# Altium integrated library Linear Technology Power Management Hot Swap Controllers.IntLib: 992 symbols (part 44 of 93)
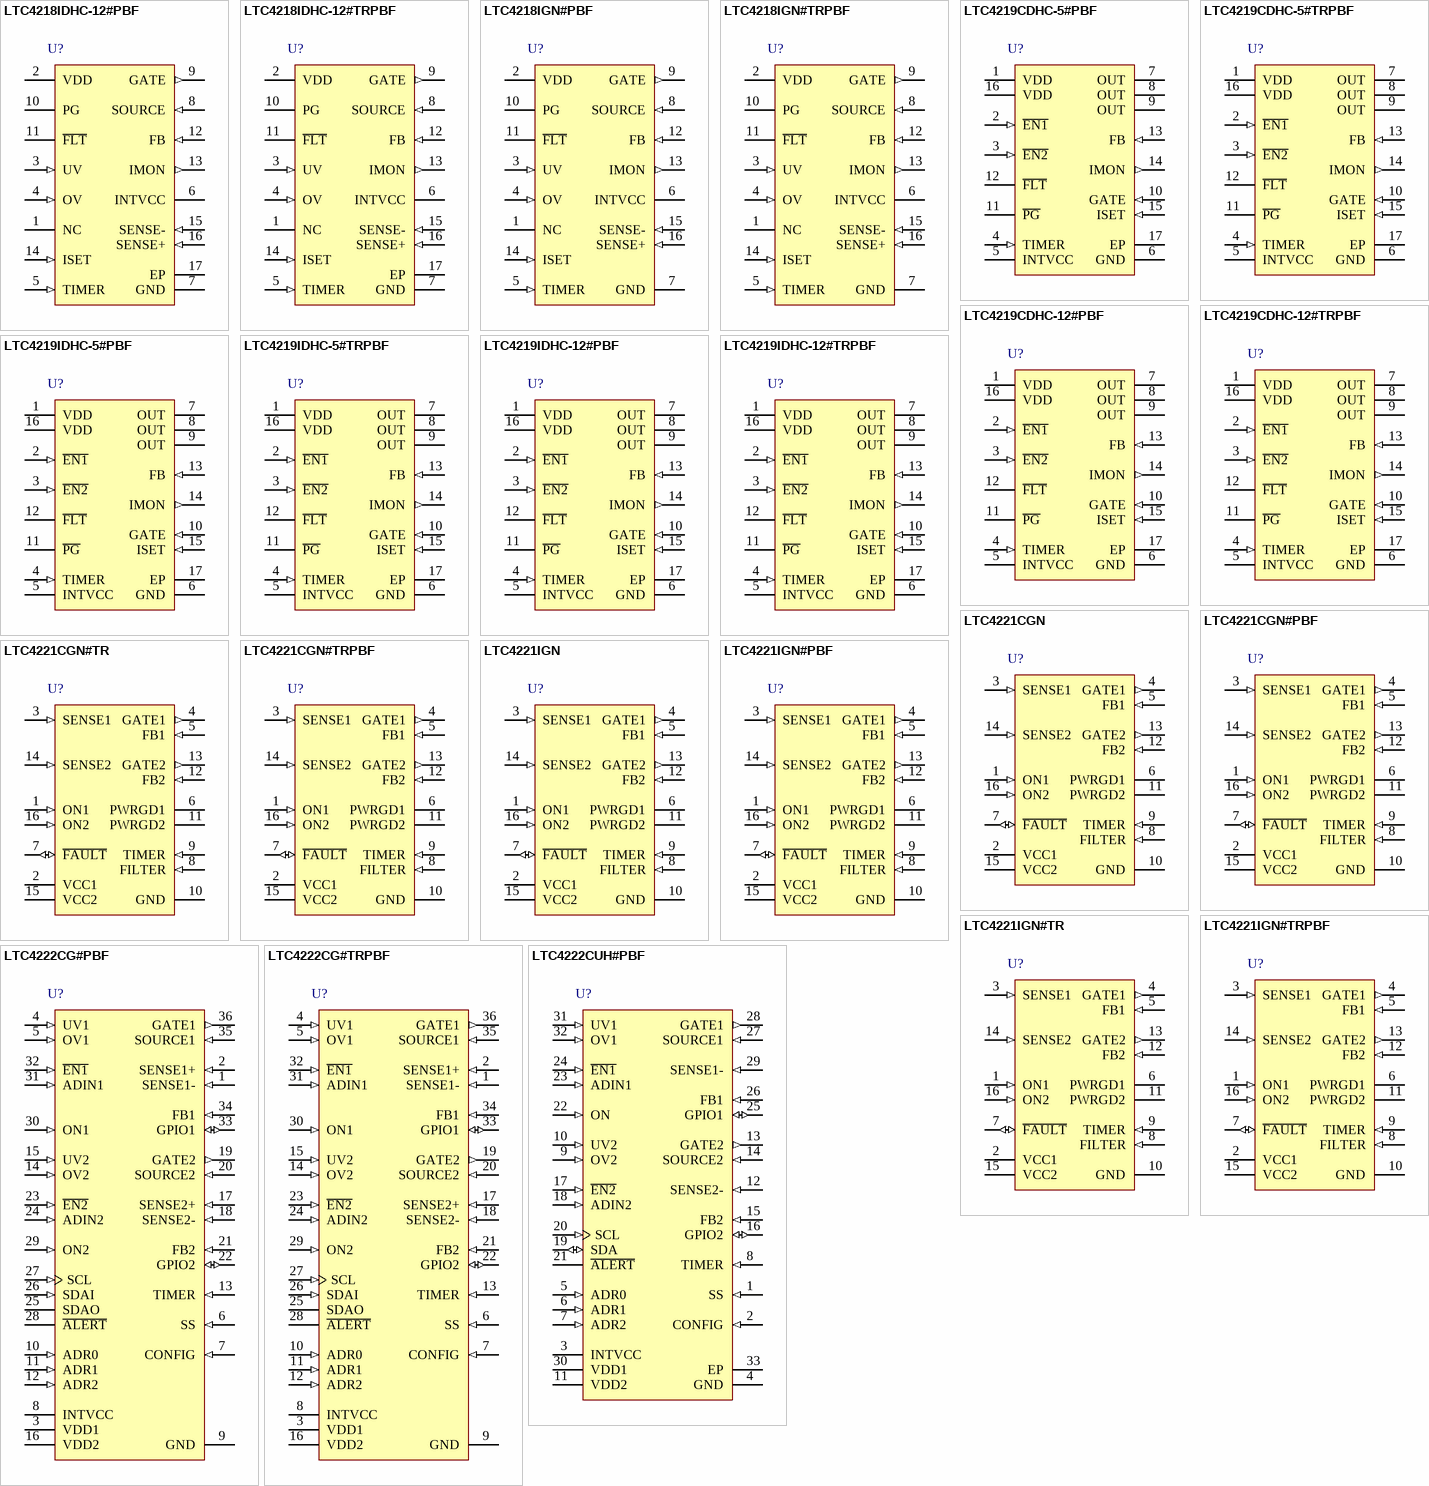
[diagram p80: symbols LTC4218IDHC-12#PBF to LTC4222CUH#PBF]

## LTC4222CG#TRPBF
designator U?
Dual Hot Swap Controller with I2C Compatible Monitoring, 2.9 to 29 V Vin, 36-pin SOP (G-36), 0 to 70 degC, Pb-Free, Tape and Reel; Manufacturer: Linear Technology; PartNumber: LTC4222CG#TRPBF; Active Limiting: yes; ADC: 10-bit; Circuit Breaker Accuracy(%): 5; Circuit Breaker Threshold: 50 mV; Circuit Breakers(#): 2; Extended Temp: C, I; DatasheetVersion: Rev. B; PackageReference: G-36; PackageDescription: 36-Pin Plastic SSOP, Body 12.8 x 5.3 mm, Pitch 0.65 mm; Supplier 1: Digi-Key; Supplier Part Number 1: LTC4222CG#TRPBF-ND; Fast Comparator: yes; Fault: yes; Foldback: yes; Packing: Tape and Reel; Power Good: yes; Reset: yes; RoHS: TRUE; Vin Range: 2.9 to 29 V; Mounting Technology: Surface Mount; ComponentLink1Description: Manufacturer URL; ComponentLink1URL: http://www.linear.com/; ComponentLink2Description: Datasheet; ComponentLink2URL: http://cds.linear.com/docs/en/datasheet/4222fb.pdf; ComponentLink3Description: Package Specification; ComponentLink3URL: http://cds.linear.com/docs/en/packaging/SSOP_36_05-08-1640.pdf
footprint LT-G-36_N (SOP, 36-Leads, Body 13.1x5.6mm, Pitch 0.65mm, IPC Medium Density)
footprint LT-G-36_L (SOP, 36-Leads, Body 13.1x5.6mm, Pitch 0.65mm, IPC High Density)
footprint LT-G-36_M (SOP, 36-Leads, Body 13.1x5.6mm, Pitch 0.65mm, IPC Low Density)
pins: 1 SENSE1- (in) "SENSE1-, SENSE2-: Negative Current Sense Input. Connect this pin to the output of the current sense resistor. The current limit circuit controls the corresponding GATE pin voltage to limit the sense voltage between the (See Datasheet)", 2 SENSE1+ (in) "SENSE1+, SENSE2+: (SSOP Package) Positive Current Sense Input. Connect this pin to the input of the current sense resistor. It must be connected to the same trace as VDDn. Internally tied to VDDn in the QFN package.", 3 VDD1 (power) "VDD1, VDD2: Supply Voltage Input and Positive Current Sense Input. This pin has an undervoltage lockout threshold of 2.43V. In the QFN package this pin is also the positive current sense input.", 4 UV1 (in) "UV1, UV2: Undervoltage Comparator Input. Connect this pin to an external resistive divider from VDD. If the voltage at this pin falls below 1.145V, an undervoltage fault is detected and the GATE turns off. Pulling this pin (See Datasheet)", 5 OV1 (in) "OV1, OV2: Overvoltage Comparator Input. Connect this pin to an external resistive divider from VDD. If the voltage at this pin rises above 1.235V, an overvoltage fault is detected and the GATE turns off. Tie to GND if unused.", 6 SS (in) "SS: Soft-Start Input. Sets the inrush current slew rate at start-up. Connect a 68nF capacitor to provide 5mV/ms as the slew rate for the sense voltage in start-up. This corresponds to 1A/ms with a 5mohm sense resistor. Note (See Datasheet)", 7 CONFIG (in) "CONFIG: Configuration Input. Configures the part to control the two channels together or independently. When CONFIG is tied to GND both channels start up at the same time. A fault, E\N\ or ON turn-off command on either (See Datasheet)", 8 INTVCC (power) "INTVCC: Low Voltage Supply Decoupling Output. Connect a 0.1uF capacitor from this pin to ground.", 9 GND (power) "GND: Device Ground.", 10 ADR0 (in) "ADR0, ADR1, ADR2: Serial Bus Address Inputs. Tying these pins to ground, open, or INTVCC configures one of 27 possible addresses. See Table 1 in Applications Information.", 11 ADR1 (in) "ADR0, ADR1, ADR2: Serial Bus Address Inputs. Tying these pins to ground, open, or INTVCC configures one of 27 possible addresses. See Table 1 in Applications Information.", 12 ADR2 (in) "ADR0, ADR1, ADR2: Serial Bus Address Inputs. Tying these pins to ground, open, or INTVCC configures one of 27 possible addresses. See Table 1 in Applications Information.", 13 TIMER (in) "TIMER: Start-Up Timer Input. Connect a capacitor between this pin and ground to set a 12.3ms/uF duration for start-up, after which an overcurrent fault is logged if the inrush is still current limited. The duration of the (See Datasheet)", 14 OV2 (in) "OV1, OV2: Overvoltage Comparator Input. Connect this pin to an external resistive divider from VDD. If the voltage at this pin rises above 1.235V, an overvoltage fault is detected and the GATE turns off. Tie to GND if unused.", 15 UV2 (in) "UV1, UV2: Undervoltage Comparator Input. Connect this pin to an external resistive divider from VDD. If the voltage at this pin falls below 1.145V, an undervoltage fault is detected and the GATE turns off. Pulling this pin (See Datasheet)", 16 VDD2 (power) "VDD1, VDD2: Supply Voltage Input and Positive Current Sense Input. This pin has an undervoltage lockout threshold of 2.43V. In the QFN package this pin is also the positive current sense input.", 17 SENSE2+ (in) "SENSE1+, SENSE2+: (SSOP Package) Positive Current Sense Input. Connect this pin to the input of the current sense resistor. It must be connected to the same trace as VDDn. Internally tied to VDDn in the QFN package.", 18 SENSE2- (in) "SENSE1-, SENSE2-: Negative Current Sense Input. Connect this pin to the output of the current sense resistor. The current limit circuit controls the corresponding GATE pin voltage to limit the sense voltage between the (See Datasheet)", 19 GATE2 (out) "GATE1, GATE2: Gate Drive for External N-Channel MOSFET. An internal 12uA current source charges the gate of the MOSFET. No compensation capacitor is required on the GATE pin, but a resistor and capacitor network from this (See Datasheet)", 20 SOURCE2 (in) "SOURCE1, SOURCE2: N-Channel MOSFET Source and ADC Input. Connect this pin to the source of the external N-channel MOSFET switch for gate drive return. This pin also serves as the ADC input to monitor output voltage. The pin (See Datasheet)", 21 FB2 (in) "FB1, FB2: Foldback Current Limit and Power-Good Input. A resistive divider from the output is tied to this pin. When the voltage at this pin drops below 1.235V, power is not considered good. The power bad condition may (See Datasheet)", 22 GPIO2 (io) "GPIO1, GPIO2: General Purpose Input/Output. Open-drain logic output or logic input. Defaults to an output set to pull low to indicate power is not good. Configure according to Table 3.", 23 ~{EN2} (in) "E\N\1\, E\N\2\: Enable Input. Ground this pin to indicate a board is present and enable the N-channel MOSFET to turn-on. When this pin is high, the MOSFET is not allowed to turn on. An internal 10uA current source pulls up (See Datasheet)", 24 ADIN2 (in) "ADIN: ADC Input. A voltage between 0 and 1.28V applied to this pin is measured by the on-board ADC. Tie to ground if unused.", 25 SDAO (oc) "SDAO: (SSOP Package) Serial Bus Data Output. Opendrain output for sending data back to the master controller or acknowledging a write operation. Normally tied to SDAI to form the SDA line. An external pull-up resistor or (See Datasheet)", 26 SDAI (in) "SDAI: (SSOP Package) Serial Bus Data Input. A high impedance input for shifting in address, command or data bits. Normally tied to SDAO to form the SDA line. Internally tied to SDAO in QFN package.", 27 SCL (in) "SCL: Serial Bus Clock Input. Data at the SDA pin is shifted in or out on rising edges of SCL. This is a high impedance pin that is generally driven by an open-collector output from a master controller. An external pull-up (See Datasheet)", 28 ~{ALERT} (oc) "A\L\E\R\T\: Fault Alert Output. Open-drain logic output that is pulled to ground when a fault occurs to alert the host controller. A fault alert is enabled by setting the corresponding bit in the A\L\E\R\T\ register as shown (See Datasheet)", 29 ON2 (in) "ON1, ON2: (SSOP Package) On Control Inputs. A rising edge turns on the external N-channel FET and a falling edge turns it off. This pin also configures the state of the FET ON register bit (and hence the external FET) at (See Datasheet)", 30 ON1 (in) "ON1, ON2: (SSOP Package) On Control Inputs. A rising edge turns on the external N-channel FET and a falling edge turns it off. This pin also configures the state of the FET ON register bit (and hence the external FET) at (See Datasheet)", 31 ADIN1 (in) "ADIN: ADC Input. A voltage between 0 and 1.28V applied to this pin is measured by the on-board ADC. Tie to ground if unused.", 32 ~{EN1} (in) "E\N\1\, E\N\2\: Enable Input. Ground this pin to indicate a board is present and enable the N-channel MOSFET to turn-on. When this pin is high, the MOSFET is not allowed to turn on. An internal 10uA current source pulls up (See Datasheet)", 33 GPIO1 (io) "GPIO1, GPIO2: General Purpose Input/Output. Open-drain logic output or logic input. Defaults to an output set to pull low to indicate power is not good. Configure according to Table 3.", 34 FB1 (in) "FB1, FB2: Foldback Current Limit and Power-Good Input. A resistive divider from the output is tied to this pin. When the voltage at this pin drops below 1.235V, power is not considered good. The power bad condition may (See Datasheet)", 35 SOURCE1 (in) "SOURCE1, SOURCE2: N-Channel MOSFET Source and ADC Input. Connect this pin to the source of the external N-channel MOSFET switch for gate drive return. This pin also serves as the ADC input to monitor output voltage. The pin (See Datasheet)", 36 GATE1 (out) "GATE1, GATE2: Gate Drive for External N-Channel MOSFET. An internal 12uA current source charges the gate of the MOSFET. No compensation capacitor is required on the GATE pin, but a resistor and capacitor network from this (See Datasheet)"

## LTC4222CUH#PBF
designator U?
Dual Hot Swap Controller with I2C Compatible Monitoring, 2.9 to 29 V Vin, 32-pin QFN (UH-32), 0 to 70 degC, Pb-Free; Manufacturer: Linear Technology; PartNumber: LTC4222CUH#PBF; Active Limiting: yes; ADC: 10-bit; Circuit Breaker Accuracy(%): 5; Circuit Breaker Threshold: 50 mV; Circuit Breakers(#): 2; Extended Temp: C, I; DatasheetVersion: Rev. B; PackageVersion: Rev. D, 06/2010; PackageReference: UH-32; PackageDescription: 32-Pin Plastic QFN, Body 5 x 5 mm, Pitch 0.5 mm; Supplier 1: Digi-Key; Supplier Part Number 1: LTC4222CUH#PBF-ND; Supplier 2: Newark; Supplier Part Number 2: 13P4661; Fast Comparator: yes; Fault: yes; Foldback: yes; Power Good: yes; Reset: yes; RoHS: TRUE; Vin Range: 2.9 to 29 V; Mounting Technology: Surface Mount; Code_JEDEC: MO-220; ComponentLink1Description: Manufacturer URL; ComponentLink1URL: http://www.linear.com/; ComponentLink2Description: Datasheet; ComponentLink2URL: http://cds.linear.com/docs/en/datasheet/4222fb.pdf; ComponentLink3Description: Package Specification; ComponentLink3URL: http://cds.linear.com/docs/en/packaging/QFN_32_05-08-1693.pdf
footprint LT-UH-32_N (QFN, 32-Leads, Body 5.1x5.1mm, Pitch 0.5mm, Thermal Pad 3.45X3.45mm, IPC Medium Density)
footprint LT-UH-32_L (QFN, 32-Leads, Body 5.1x5.1mm, Pitch 0.5mm, Thermal Pad 3.45X3.45mm, IPC High Density)
footprint LT-UH-32_M (QFN, 32-Leads, Body 5.1x5.1mm, Pitch 0.5mm, Thermal Pad 3.45X3.45mm, IPC Low Density)
pins: 1 SS (in) "SS: Soft-Start Input. Sets the inrush current slew rate at start-up. Connect a 68nF capacitor to provide 5mV/ms as the slew rate for the sense voltage in start-up. This corresponds to 1A/ms with a 5mohm sense resistor. Note (See Datasheet)", 2 CONFIG (in) "CONFIG: Configuration Input. Configures the part to control the two channels together or independently. When CONFIG is tied to GND both channels start up at the same time. A fault, E\N\ or ON turn-off command on either (See Datasheet)", 3 INTVCC (power) "INTVCC: Low Voltage Supply Decoupling Output. Connect a 0.1uF capacitor from this pin to ground.", 4 GND (power) "GND: Device Ground.", 5 ADR0 (in) "ADR0, ADR1, ADR2: Serial Bus Address Inputs. Tying these pins to ground, open, or INTVCC configures one of 27 possible addresses. See Table 1 in Applications Information.", 6 ADR1 (in) "ADR0, ADR1, ADR2: Serial Bus Address Inputs. Tying these pins to ground, open, or INTVCC configures one of 27 possible addresses. See Table 1 in Applications Information.", 7 ADR2 (in) "ADR0, ADR1, ADR2: Serial Bus Address Inputs. Tying these pins to ground, open, or INTVCC configures one of 27 possible addresses. See Table 1 in Applications Information.", 8 TIMER (in) "TIMER: Start-Up Timer Input. Connect a capacitor between this pin and ground to set a 12.3ms/uF duration for start-up, after which an overcurrent fault is logged if the inrush is still current limited. The duration of the (See Datasheet)", 9 OV2 (in) "OV1, OV2: Overvoltage Comparator Input. Connect this pin to an external resistive divider from VDD. If the voltage at this pin rises above 1.235V, an overvoltage fault is detected and the GATE turns off. Tie to GND if unused.", 10 UV2 (in) "UV1, UV2: Undervoltage Comparator Input. Connect this pin to an external resistive divider from VDD. If the voltage at this pin falls below 1.145V, an undervoltage fault is detected and the GATE turns off. Pulling this pin (See Datasheet)", 11 VDD2 (power) "VDD1, VDD2: Supply Voltage Input and Positive Current Sense Input. This pin has an undervoltage lockout threshold of 2.43V. In the QFN package this pin is also the positive current sense input.", 12 SENSE2- (in) "SENSE1-, SENSE2-: Negative Current Sense Input. Connect this pin to the output of the current sense resistor. The current limit circuit controls the corresponding GATE pin voltage to limit the sense voltage between the (See Datasheet)", 13 GATE2 (out) "GATE1, GATE2: Gate Drive for External N-Channel MOSFET. An internal 12uA current source charges the gate of the MOSFET. No compensation capacitor is required on the GATE pin, but a resistor and capacitor network from this (See Datasheet)", 14 SOURCE2 (in) "SOURCE1, SOURCE2: N-Channel MOSFET Source and ADC Input. Connect this pin to the source of the external N-channel MOSFET switch for gate drive return. This pin also serves as the ADC input to monitor output voltage. The pin (See Datasheet)", 15 FB2 (in) "FB1, FB2: Foldback Current Limit and Power-Good Input. A resistive divider from the output is tied to this pin. When the voltage at this pin drops below 1.235V, power is not considered good. The power bad condition may (See Datasheet)", 16 GPIO2 (io) "GPIO1, GPIO2: General Purpose Input/Output. Open-drain logic output or logic input. Defaults to an output set to pull low to indicate power is not good. Configure according to Table 3.", 17 ~{EN2} (in) "E\N\1\, E\N\2\: Enable Input. Ground this pin to indicate a board is present and enable the N-channel MOSFET to turn-on. When this pin is high, the MOSFET is not allowed to turn on. An internal 10uA current source pulls up (See Datasheet)", 18 ADIN2 (in) "ADIN: ADC Input. A voltage between 0 and 1.28V applied to this pin is measured by the on-board ADC. Tie to ground if unused.", 19 SDA (io) "SDA: (QFN Package) Serial Bus Data Input/Output Line. Formed by internally tying the SDAO and SDAI lines together. An external pull-up resistor or current source is required.", 20 SCL (in) "SCL: Serial Bus Clock Input. Data at the SDA pin is shifted in or out on rising edges of SCL. This is a high impedance pin that is generally driven by an open-collector output from a master controller. An external pull-up (See Datasheet)", 21 ~{ALERT} (oc) "A\L\E\R\T\: Fault Alert Output. Open-drain logic output that is pulled to ground when a fault occurs to alert the host controller. A fault alert is enabled by setting the corresponding bit in the A\L\E\R\T\ register as shown (See Datasheet)", 22 ON (in) "ON: (QFN Package) On Control Input. Formed by internally tying the ON1 and ON2 lines together.", 23 ADIN1 (in) "ADIN: ADC Input. A voltage between 0 and 1.28V applied to this pin is measured by the on-board ADC. Tie to ground if unused.", 24 ~{EN1} (in) "E\N\1\, E\N\2\: Enable Input. Ground this pin to indicate a board is present and enable the N-channel MOSFET to turn-on. When this pin is high, the MOSFET is not allowed to turn on. An internal 10uA current source pulls up (See Datasheet)", 25 GPIO1 (io) "GPIO1, GPIO2: General Purpose Input/Output. Open-drain logic output or logic input. Defaults to an output set to pull low to indicate power is not good. Configure according to Table 3.", 26 FB1 (in) "FB1, FB2: Foldback Current Limit and Power-Good Input. A resistive divider from the output is tied to this pin. When the voltage at this pin drops below 1.235V, power is not considered good. The power bad condition may (See Datasheet)", 27 SOURCE1 (in) "SOURCE1, SOURCE2: N-Channel MOSFET Source and ADC Input. Connect this pin to the source of the external N-channel MOSFET switch for gate drive return. This pin also serves as the ADC input to monitor output voltage. The pin (See Datasheet)", 28 GATE1 (out) "GATE1, GATE2: Gate Drive for External N-Channel MOSFET. An internal 12uA current source charges the gate of the MOSFET. No compensation capacitor is required on the GATE pin, but a resistor and capacitor network from this (See Datasheet)", 29 SENSE1- (in) "SENSE1-, SENSE2-: Negative Current Sense Input. Connect this pin to the output of the current sense resistor. The current limit circuit controls the corresponding GATE pin voltage to limit the sense voltage between the (See Datasheet)", 30 VDD1 (power) "VDD1, VDD2: Supply Voltage Input and Positive Current Sense Input. This pin has an undervoltage lockout threshold of 2.43V. In the QFN package this pin is also the positive current sense input.", 31 UV1 (in) "UV1, UV2: Undervoltage Comparator Input. Connect this pin to an external resistive divider from VDD. If the voltage at this pin falls below 1.145V, an undervoltage fault is detected and the GATE turns off. Pulling this pin (See Datasheet)", 32 OV1 (in) "OV1, OV2: Overvoltage Comparator Input. Connect this pin to an external resistive divider from VDD. If the voltage at this pin rises above 1.235V, an overvoltage fault is detected and the GATE turns off. Tie to GND if unused.", 33 EP (power) "EXPOSED PAD: (Pin 33, QFN Package) Exposed Pad. May be left open or connected to device ground."

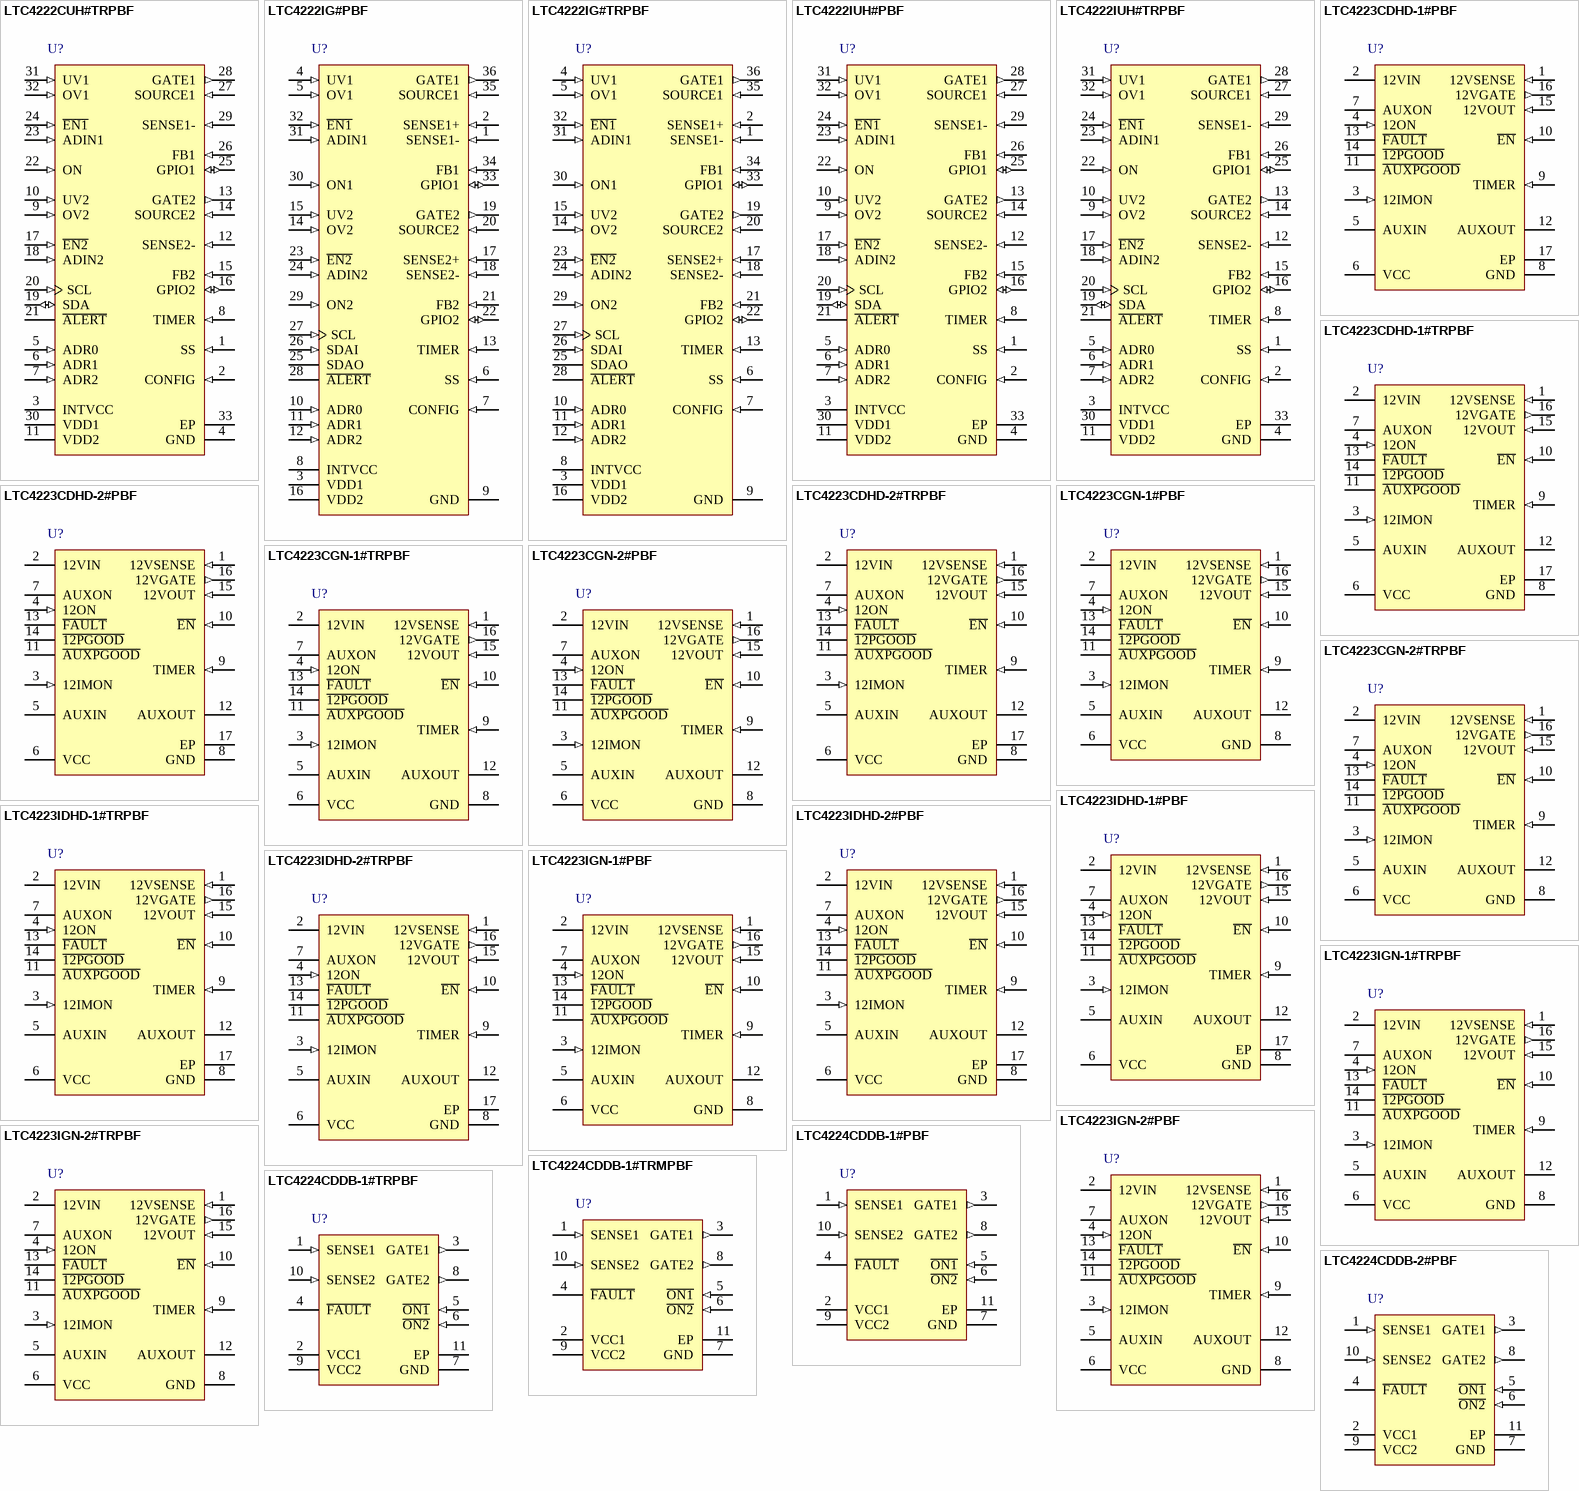
[diagram p18: symbols LTC4222CUH#TRPBF to LTC4224CDDB-2#PBF]

## LTC4222CUH#TRPBF
designator U?
Dual Hot Swap Controller with I2C Compatible Monitoring, 2.9 to 29 V Vin, 32-pin QFN (UH-32), 0 to 70 degC, Pb-Free, Tape and Reel; Manufacturer: Linear Technology; PartNumber: LTC4222CUH#TRPBF; Active Limiting: yes; ADC: 10-bit; Circuit Breaker Accuracy(%): 5; Circuit Breaker Threshold: 50 mV; Circuit Breakers(#): 2; Extended Temp: C, I; DatasheetVersion: Rev. B; PackageVersion: Rev. D, 06/2010; PackageReference: UH-32; PackageDescription: 32-Pin Plastic QFN, Body 5 x 5 mm, Pitch 0.5 mm; Supplier 1: Digi-Key; Supplier Part Number 1: LTC4222CUH#TRPBF-ND; Supplier 2: Newark; Supplier Part Number 2: 19P9339; Fast Comparator: yes; Fault: yes; Foldback: yes; Packing: Tape and Reel; Power Good: yes; Reset: yes; RoHS: TRUE; Vin Range: 2.9 to 29 V; Mounting Technology: Surface Mount; Code_JEDEC: MO-220; ComponentLink1Description: Manufacturer URL; ComponentLink1URL: http://www.linear.com/; ComponentLink2Description: Datasheet; ComponentLink2URL: http://cds.linear.com/docs/en/datasheet/4222fb.pdf; ComponentLink3Description: Package Specification; ComponentLink3URL: http://cds.linear.com/docs/en/packaging/QFN_32_05-08-1693.pdf
footprint LT-UH-32_N (QFN, 32-Leads, Body 5.1x5.1mm, Pitch 0.5mm, Thermal Pad 3.45X3.45mm, IPC Medium Density)
footprint LT-UH-32_L (QFN, 32-Leads, Body 5.1x5.1mm, Pitch 0.5mm, Thermal Pad 3.45X3.45mm, IPC High Density)
footprint LT-UH-32_M (QFN, 32-Leads, Body 5.1x5.1mm, Pitch 0.5mm, Thermal Pad 3.45X3.45mm, IPC Low Density)
pins: 1 SS (in) "SS: Soft-Start Input. Sets the inrush current slew rate at start-up. Connect a 68nF capacitor to provide 5mV/ms as the slew rate for the sense voltage in start-up. This corresponds to 1A/ms with a 5mohm sense resistor. Note (See Datasheet)", 2 CONFIG (in) "CONFIG: Configuration Input. Configures the part to control the two channels together or independently. When CONFIG is tied to GND both channels start up at the same time. A fault, E\N\ or ON turn-off command on either (See Datasheet)", 3 INTVCC (power) "INTVCC: Low Voltage Supply Decoupling Output. Connect a 0.1uF capacitor from this pin to ground.", 4 GND (power) "GND: Device Ground.", 5 ADR0 (in) "ADR0, ADR1, ADR2: Serial Bus Address Inputs. Tying these pins to ground, open, or INTVCC configures one of 27 possible addresses. See Table 1 in Applications Information.", 6 ADR1 (in) "ADR0, ADR1, ADR2: Serial Bus Address Inputs. Tying these pins to ground, open, or INTVCC configures one of 27 possible addresses. See Table 1 in Applications Information.", 7 ADR2 (in) "ADR0, ADR1, ADR2: Serial Bus Address Inputs. Tying these pins to ground, open, or INTVCC configures one of 27 possible addresses. See Table 1 in Applications Information.", 8 TIMER (in) "TIMER: Start-Up Timer Input. Connect a capacitor between this pin and ground to set a 12.3ms/uF duration for start-up, after which an overcurrent fault is logged if the inrush is still current limited. The duration of the (See Datasheet)", 9 OV2 (in) "OV1, OV2: Overvoltage Comparator Input. Connect this pin to an external resistive divider from VDD. If the voltage at this pin rises above 1.235V, an overvoltage fault is detected and the GATE turns off. Tie to GND if unused.", 10 UV2 (in) "UV1, UV2: Undervoltage Comparator Input. Connect this pin to an external resistive divider from VDD. If the voltage at this pin falls below 1.145V, an undervoltage fault is detected and the GATE turns off. Pulling this pin (See Datasheet)", 11 VDD2 (power) "VDD1, VDD2: Supply Voltage Input and Positive Current Sense Input. This pin has an undervoltage lockout threshold of 2.43V. In the QFN package this pin is also the positive current sense input.", 12 SENSE2- (in) "SENSE1-, SENSE2-: Negative Current Sense Input. Connect this pin to the output of the current sense resistor. The current limit circuit controls the corresponding GATE pin voltage to limit the sense voltage between the (See Datasheet)", 13 GATE2 (out) "GATE1, GATE2: Gate Drive for External N-Channel MOSFET. An internal 12uA current source charges the gate of the MOSFET. No compensation capacitor is required on the GATE pin, but a resistor and capacitor network from this (See Datasheet)", 14 SOURCE2 (in) "SOURCE1, SOURCE2: N-Channel MOSFET Source and ADC Input. Connect this pin to the source of the external N-channel MOSFET switch for gate drive return. This pin also serves as the ADC input to monitor output voltage. The pin (See Datasheet)", 15 FB2 (in) "FB1, FB2: Foldback Current Limit and Power-Good Input. A resistive divider from the output is tied to this pin. When the voltage at this pin drops below 1.235V, power is not considered good. The power bad condition may (See Datasheet)", 16 GPIO2 (io) "GPIO1, GPIO2: General Purpose Input/Output. Open-drain logic output or logic input. Defaults to an output set to pull low to indicate power is not good. Configure according to Table 3.", 17 ~{EN2} (in) "E\N\1\, E\N\2\: Enable Input. Ground this pin to indicate a board is present and enable the N-channel MOSFET to turn-on. When this pin is high, the MOSFET is not allowed to turn on. An internal 10uA current source pulls up (See Datasheet)", 18 ADIN2 (in) "ADIN: ADC Input. A voltage between 0 and 1.28V applied to this pin is measured by the on-board ADC. Tie to ground if unused.", 19 SDA (io) "SDA: (QFN Package) Serial Bus Data Input/Output Line. Formed by internally tying the SDAO and SDAI lines together. An external pull-up resistor or current source is required.", 20 SCL (in) "SCL: Serial Bus Clock Input. Data at the SDA pin is shifted in or out on rising edges of SCL. This is a high impedance pin that is generally driven by an open-collector output from a master controller. An external pull-up (See Datasheet)", 21 ~{ALERT} (oc) "A\L\E\R\T\: Fault Alert Output. Open-drain logic output that is pulled to ground when a fault occurs to alert the host controller. A fault alert is enabled by setting the corresponding bit in the A\L\E\R\T\ register as shown (See Datasheet)", 22 ON (in) "ON: (QFN Package) On Control Input. Formed by internally tying the ON1 and ON2 lines together.", 23 ADIN1 (in) "ADIN: ADC Input. A voltage between 0 and 1.28V applied to this pin is measured by the on-board ADC. Tie to ground if unused.", 24 ~{EN1} (in) "E\N\1\, E\N\2\: Enable Input. Ground this pin to indicate a board is present and enable the N-channel MOSFET to turn-on. When this pin is high, the MOSFET is not allowed to turn on. An internal 10uA current source pulls up (See Datasheet)", 25 GPIO1 (io) "GPIO1, GPIO2: General Purpose Input/Output. Open-drain logic output or logic input. Defaults to an output set to pull low to indicate power is not good. Configure according to Table 3.", 26 FB1 (in) "FB1, FB2: Foldback Current Limit and Power-Good Input. A resistive divider from the output is tied to this pin. When the voltage at this pin drops below 1.235V, power is not considered good. The power bad condition may (See Datasheet)", 27 SOURCE1 (in) "SOURCE1, SOURCE2: N-Channel MOSFET Source and ADC Input. Connect this pin to the source of the external N-channel MOSFET switch for gate drive return. This pin also serves as the ADC input to monitor output voltage. The pin (See Datasheet)", 28 GATE1 (out) "GATE1, GATE2: Gate Drive for External N-Channel MOSFET. An internal 12uA current source charges the gate of the MOSFET. No compensation capacitor is required on the GATE pin, but a resistor and capacitor network from this (See Datasheet)", 29 SENSE1- (in) "SENSE1-, SENSE2-: Negative Current Sense Input. Connect this pin to the output of the current sense resistor. The current limit circuit controls the corresponding GATE pin voltage to limit the sense voltage between the (See Datasheet)", 30 VDD1 (power) "VDD1, VDD2: Supply Voltage Input and Positive Current Sense Input. This pin has an undervoltage lockout threshold of 2.43V. In the QFN package this pin is also the positive current sense input.", 31 UV1 (in) "UV1, UV2: Undervoltage Comparator Input. Connect this pin to an external resistive divider from VDD. If the voltage at this pin falls below 1.145V, an undervoltage fault is detected and the GATE turns off. Pulling this pin (See Datasheet)", 32 OV1 (in) "OV1, OV2: Overvoltage Comparator Input. Connect this pin to an external resistive divider from VDD. If the voltage at this pin rises above 1.235V, an overvoltage fault is detected and the GATE turns off. Tie to GND if unused.", 33 EP (power) "EXPOSED PAD: (Pin 33, QFN Package) Exposed Pad. May be left open or connected to device ground."

## LTC4222IG#PBF
designator U?
Dual Hot Swap Controller with I2C Compatible Monitoring, 2.9 to 29 V Vin, 36-pin SOP (G-36), -40 to 85 degC, Pb-Free; Manufacturer: Linear Technology; PartNumber: LTC4222IG#PBF; Active Limiting: yes; ADC: 10-bit; Circuit Breaker Accuracy(%): 5; Circuit Breaker Threshold: 50 mV; Circuit Breakers(#): 2; Extended Temp: C, I; DatasheetVersion: Rev. B; PackageReference: G-36; PackageDescription: 36-Pin Plastic SSOP, Body 12.8 x 5.3 mm, Pitch 0.65 mm; Supplier 1: Digi-Key; Supplier Part Number 1: LTC4222IG#PBF-ND; Supplier 2: Newark; Supplier Part Number 2: 13P4662; Fast Comparator: yes; Fault: yes; Foldback: yes; Power Good: yes; Reset: yes; RoHS: TRUE; Vin Range: 2.9 to 29 V; Mounting Technology: Surface Mount; ComponentLink1Description: Manufacturer URL; ComponentLink1URL: http://www.linear.com/; ComponentLink2Description: Datasheet; ComponentLink2URL: http://cds.linear.com/docs/en/datasheet/4222fb.pdf; ComponentLink3Description: Package Specification; ComponentLink3URL: http://cds.linear.com/docs/en/packaging/SSOP_36_05-08-1640.pdf
footprint LT-G-36_N (SOP, 36-Leads, Body 13.1x5.6mm, Pitch 0.65mm, IPC Medium Density)
footprint LT-G-36_L (SOP, 36-Leads, Body 13.1x5.6mm, Pitch 0.65mm, IPC High Density)
footprint LT-G-36_M (SOP, 36-Leads, Body 13.1x5.6mm, Pitch 0.65mm, IPC Low Density)
pins: 1 SENSE1- (in) "SENSE1-, SENSE2-: Negative Current Sense Input. Connect this pin to the output of the current sense resistor. The current limit circuit controls the corresponding GATE pin voltage to limit the sense voltage between the (See Datasheet)", 2 SENSE1+ (in) "SENSE1+, SENSE2+: (SSOP Package) Positive Current Sense Input. Connect this pin to the input of the current sense resistor. It must be connected to the same trace as VDDn. Internally tied to VDDn in the QFN package.", 3 VDD1 (power) "VDD1, VDD2: Supply Voltage Input and Positive Current Sense Input. This pin has an undervoltage lockout threshold of 2.43V. In the QFN package this pin is also the positive current sense input.", 4 UV1 (in) "UV1, UV2: Undervoltage Comparator Input. Connect this pin to an external resistive divider from VDD. If the voltage at this pin falls below 1.145V, an undervoltage fault is detected and the GATE turns off. Pulling this pin (See Datasheet)", 5 OV1 (in) "OV1, OV2: Overvoltage Comparator Input. Connect this pin to an external resistive divider from VDD. If the voltage at this pin rises above 1.235V, an overvoltage fault is detected and the GATE turns off. Tie to GND if unused.", 6 SS (in) "SS: Soft-Start Input. Sets the inrush current slew rate at start-up. Connect a 68nF capacitor to provide 5mV/ms as the slew rate for the sense voltage in start-up. This corresponds to 1A/ms with a 5mohm sense resistor. Note (See Datasheet)", 7 CONFIG (in) "CONFIG: Configuration Input. Configures the part to control the two channels together or independently. When CONFIG is tied to GND both channels start up at the same time. A fault, E\N\ or ON turn-off command on either (See Datasheet)", 8 INTVCC (power) "INTVCC: Low Voltage Supply Decoupling Output. Connect a 0.1uF capacitor from this pin to ground.", 9 GND (power) "GND: Device Ground.", 10 ADR0 (in) "ADR0, ADR1, ADR2: Serial Bus Address Inputs. Tying these pins to ground, open, or INTVCC configures one of 27 possible addresses. See Table 1 in Applications Information.", 11 ADR1 (in) "ADR0, ADR1, ADR2: Serial Bus Address Inputs. Tying these pins to ground, open, or INTVCC configures one of 27 possible addresses. See Table 1 in Applications Information.", 12 ADR2 (in) "ADR0, ADR1, ADR2: Serial Bus Address Inputs. Tying these pins to ground, open, or INTVCC configures one of 27 possible addresses. See Table 1 in Applications Information.", 13 TIMER (in) "TIMER: Start-Up Timer Input. Connect a capacitor between this pin and ground to set a 12.3ms/uF duration for start-up, after which an overcurrent fault is logged if the inrush is still current limited. The duration of the (See Datasheet)", 14 OV2 (in) "OV1, OV2: Overvoltage Comparator Input. Connect this pin to an external resistive divider from VDD. If the voltage at this pin rises above 1.235V, an overvoltage fault is detected and the GATE turns off. Tie to GND if unused.", 15 UV2 (in) "UV1, UV2: Undervoltage Comparator Input. Connect this pin to an external resistive divider from VDD. If the voltage at this pin falls below 1.145V, an undervoltage fault is detected and the GATE turns off. Pulling this pin (See Datasheet)", 16 VDD2 (power) "VDD1, VDD2: Supply Voltage Input and Positive Current Sense Input. This pin has an undervoltage lockout threshold of 2.43V. In the QFN package this pin is also the positive current sense input.", 17 SENSE2+ (in) "SENSE1+, SENSE2+: (SSOP Package) Positive Current Sense Input. Connect this pin to the input of the current sense resistor. It must be connected to the same trace as VDDn. Internally tied to VDDn in the QFN package.", 18 SENSE2- (in) "SENSE1-, SENSE2-: Negative Current Sense Input. Connect this pin to the output of the current sense resistor. The current limit circuit controls the corresponding GATE pin voltage to limit the sense voltage between the (See Datasheet)", 19 GATE2 (out) "GATE1, GATE2: Gate Drive for External N-Channel MOSFET. An internal 12uA current source charges the gate of the MOSFET. No compensation capacitor is required on the GATE pin, but a resistor and capacitor network from this (See Datasheet)", 20 SOURCE2 (in) "SOURCE1, SOURCE2: N-Channel MOSFET Source and ADC Input. Connect this pin to the source of the external N-channel MOSFET switch for gate drive return. This pin also serves as the ADC input to monitor output voltage. The pin (See Datasheet)", 21 FB2 (in) "FB1, FB2: Foldback Current Limit and Power-Good Input. A resistive divider from the output is tied to this pin. When the voltage at this pin drops below 1.235V, power is not considered good. The power bad condition may (See Datasheet)", 22 GPIO2 (io) "GPIO1, GPIO2: General Purpose Input/Output. Open-drain logic output or logic input. Defaults to an output set to pull low to indicate power is not good. Configure according to Table 3.", 23 ~{EN2} (in) "E\N\1\, E\N\2\: Enable Input. Ground this pin to indicate a board is present and enable the N-channel MOSFET to turn-on. When this pin is high, the MOSFET is not allowed to turn on. An internal 10uA current source pulls up (See Datasheet)", 24 ADIN2 (in) "ADIN: ADC Input. A voltage between 0 and 1.28V applied to this pin is measured by the on-board ADC. Tie to ground if unused.", 25 SDAO (oc) "SDAO: (SSOP Package) Serial Bus Data Output. Opendrain output for sending data back to the master controller or acknowledging a write operation. Normally tied to SDAI to form the SDA line. An external pull-up resistor or (See Datasheet)", 26 SDAI (in) "SDAI: (SSOP Package) Serial Bus Data Input. A high impedance input for shifting in address, command or data bits. Normally tied to SDAO to form the SDA line. Internally tied to SDAO in QFN package.", 27 SCL (in) "SCL: Serial Bus Clock Input. Data at the SDA pin is shifted in or out on rising edges of SCL. This is a high impedance pin that is generally driven by an open-collector output from a master controller. An external pull-up (See Datasheet)", 28 ~{ALERT} (oc) "A\L\E\R\T\: Fault Alert Output. Open-drain logic output that is pulled to ground when a fault occurs to alert the host controller. A fault alert is enabled by setting the corresponding bit in the A\L\E\R\T\ register as shown (See Datasheet)", 29 ON2 (in) "ON1, ON2: (SSOP Package) On Control Inputs. A rising edge turns on the external N-channel FET and a falling edge turns it off. This pin also configures the state of the FET ON register bit (and hence the external FET) at (See Datasheet)", 30 ON1 (in) "ON1, ON2: (SSOP Package) On Control Inputs. A rising edge turns on the external N-channel FET and a falling edge turns it off. This pin also configures the state of the FET ON register bit (and hence the external FET) at (See Datasheet)", 31 ADIN1 (in) "ADIN: ADC Input. A voltage between 0 and 1.28V applied to this pin is measured by the on-board ADC. Tie to ground if unused.", 32 ~{EN1} (in) "E\N\1\, E\N\2\: Enable Input. Ground this pin to indicate a board is present and enable the N-channel MOSFET to turn-on. When this pin is high, the MOSFET is not allowed to turn on. An internal 10uA current source pulls up (See Datasheet)", 33 GPIO1 (io) "GPIO1, GPIO2: General Purpose Input/Output. Open-drain logic output or logic input. Defaults to an output set to pull low to indicate power is not good. Configure according to Table 3.", 34 FB1 (in) "FB1, FB2: Foldback Current Limit and Power-Good Input. A resistive divider from the output is tied to this pin. When the voltage at this pin drops below 1.235V, power is not considered good. The power bad condition may (See Datasheet)", 35 SOURCE1 (in) "SOURCE1, SOURCE2: N-Channel MOSFET Source and ADC Input. Connect this pin to the source of the external N-channel MOSFET switch for gate drive return. This pin also serves as the ADC input to monitor output voltage. The pin (See Datasheet)", 36 GATE1 (out) "GATE1, GATE2: Gate Drive for External N-Channel MOSFET. An internal 12uA current source charges the gate of the MOSFET. No compensation capacitor is required on the GATE pin, but a resistor and capacitor network from this (See Datasheet)"

## LTC4222IG#TRPBF
designator U?
Dual Hot Swap Controller with I2C Compatible Monitoring, 2.9 to 29 V Vin, 36-pin SOP (G-36), -40 to 85 degC, Pb-Free, Tape and Reel; Manufacturer: Linear Technology; PartNumber: LTC4222IG#TRPBF; Active Limiting: yes; ADC: 10-bit; Circuit Breaker Accuracy(%): 5; Circuit Breaker Threshold: 50 mV; Circuit Breakers(#): 2; Extended Temp: C, I; DatasheetVersion: Rev. B; PackageReference: G-36; PackageDescription: 36-Pin Plastic SSOP, Body 12.8 x 5.3 mm, Pitch 0.65 mm; Supplier 1: Digi-Key; Supplier Part Number 1: LTC4222IG#TRPBF-ND; Fast Comparator: yes; Fault: yes; Foldback: yes; Packing: Tape and Reel; Power Good: yes; Reset: yes; RoHS: TRUE; Vin Range: 2.9 to 29 V; Mounting Technology: Surface Mount; ComponentLink1Description: Manufacturer URL; ComponentLink1URL: http://www.linear.com/; ComponentLink2Description: Datasheet; ComponentLink2URL: http://cds.linear.com/docs/en/datasheet/4222fb.pdf; ComponentLink3Description: Package Specification; ComponentLink3URL: http://cds.linear.com/docs/en/packaging/SSOP_36_05-08-1640.pdf
footprint LT-G-36_N (SOP, 36-Leads, Body 13.1x5.6mm, Pitch 0.65mm, IPC Medium Density)
footprint LT-G-36_L (SOP, 36-Leads, Body 13.1x5.6mm, Pitch 0.65mm, IPC High Density)
footprint LT-G-36_M (SOP, 36-Leads, Body 13.1x5.6mm, Pitch 0.65mm, IPC Low Density)
pins: 1 SENSE1- (in) "SENSE1-, SENSE2-: Negative Current Sense Input. Connect this pin to the output of the current sense resistor. The current limit circuit controls the corresponding GATE pin voltage to limit the sense voltage between the (See Datasheet)", 2 SENSE1+ (in) "SENSE1+, SENSE2+: (SSOP Package) Positive Current Sense Input. Connect this pin to the input of the current sense resistor. It must be connected to the same trace as VDDn. Internally tied to VDDn in the QFN package.", 3 VDD1 (power) "VDD1, VDD2: Supply Voltage Input and Positive Current Sense Input. This pin has an undervoltage lockout threshold of 2.43V. In the QFN package this pin is also the positive current sense input.", 4 UV1 (in) "UV1, UV2: Undervoltage Comparator Input. Connect this pin to an external resistive divider from VDD. If the voltage at this pin falls below 1.145V, an undervoltage fault is detected and the GATE turns off. Pulling this pin (See Datasheet)", 5 OV1 (in) "OV1, OV2: Overvoltage Comparator Input. Connect this pin to an external resistive divider from VDD. If the voltage at this pin rises above 1.235V, an overvoltage fault is detected and the GATE turns off. Tie to GND if unused.", 6 SS (in) "SS: Soft-Start Input. Sets the inrush current slew rate at start-up. Connect a 68nF capacitor to provide 5mV/ms as the slew rate for the sense voltage in start-up. This corresponds to 1A/ms with a 5mohm sense resistor. Note (See Datasheet)", 7 CONFIG (in) "CONFIG: Configuration Input. Configures the part to control the two channels together or independently. When CONFIG is tied to GND both channels start up at the same time. A fault, E\N\ or ON turn-off command on either (See Datasheet)", 8 INTVCC (power) "INTVCC: Low Voltage Supply Decoupling Output. Connect a 0.1uF capacitor from this pin to ground.", 9 GND (power) "GND: Device Ground.", 10 ADR0 (in) "ADR0, ADR1, ADR2: Serial Bus Address Inputs. Tying these pins to ground, open, or INTVCC configures one of 27 possible addresses. See Table 1 in Applications Information.", 11 ADR1 (in) "ADR0, ADR1, ADR2: Serial Bus Address Inputs. Tying these pins to ground, open, or INTVCC configures one of 27 possible addresses. See Table 1 in Applications Information.", 12 ADR2 (in) "ADR0, ADR1, ADR2: Serial Bus Address Inputs. Tying these pins to ground, open, or INTVCC configures one of 27 possible addresses. See Table 1 in Applications Information.", 13 TIMER (in) "TIMER: Start-Up Timer Input. Connect a capacitor between this pin and ground to set a 12.3ms/uF duration for start-up, after which an overcurrent fault is logged if the inrush is still current limited. The duration of the (See Datasheet)", 14 OV2 (in) "OV1, OV2: Overvoltage Comparator Input. Connect this pin to an external resistive divider from VDD. If the voltage at this pin rises above 1.235V, an overvoltage fault is detected and the GATE turns off. Tie to GND if unused.", 15 UV2 (in) "UV1, UV2: Undervoltage Comparator Input. Connect this pin to an external resistive divider from VDD. If the voltage at this pin falls below 1.145V, an undervoltage fault is detected and the GATE turns off. Pulling this pin (See Datasheet)", 16 VDD2 (power) "VDD1, VDD2: Supply Voltage Input and Positive Current Sense Input. This pin has an undervoltage lockout threshold of 2.43V. In the QFN package this pin is also the positive current sense input.", 17 SENSE2+ (in) "SENSE1+, SENSE2+: (SSOP Package) Positive Current Sense Input. Connect this pin to the input of the current sense resistor. It must be connected to the same trace as VDDn. Internally tied to VDDn in the QFN package.", 18 SENSE2- (in) "SENSE1-, SENSE2-: Negative Current Sense Input. Connect this pin to the output of the current sense resistor. The current limit circuit controls the corresponding GATE pin voltage to limit the sense voltage between the (See Datasheet)", 19 GATE2 (out) "GATE1, GATE2: Gate Drive for External N-Channel MOSFET. An internal 12uA current source charges the gate of the MOSFET. No compensation capacitor is required on the GATE pin, but a resistor and capacitor network from this (See Datasheet)", 20 SOURCE2 (in) "SOURCE1, SOURCE2: N-Channel MOSFET Source and ADC Input. Connect this pin to the source of the external N-channel MOSFET switch for gate drive return. This pin also serves as the ADC input to monitor output voltage. The pin (See Datasheet)", 21 FB2 (in) "FB1, FB2: Foldback Current Limit and Power-Good Input. A resistive divider from the output is tied to this pin. When the voltage at this pin drops below 1.235V, power is not considered good. The power bad condition may (See Datasheet)", 22 GPIO2 (io) "GPIO1, GPIO2: General Purpose Input/Output. Open-drain logic output or logic input. Defaults to an output set to pull low to indicate power is not good. Configure according to Table 3.", 23 ~{EN2} (in) "E\N\1\, E\N\2\: Enable Input. Ground this pin to indicate a board is present and enable the N-channel MOSFET to turn-on. When this pin is high, the MOSFET is not allowed to turn on. An internal 10uA current source pulls up (See Datasheet)", 24 ADIN2 (in) "ADIN: ADC Input. A voltage between 0 and 1.28V applied to this pin is measured by the on-board ADC. Tie to ground if unused.", 25 SDAO (oc) "SDAO: (SSOP Package) Serial Bus Data Output. Opendrain output for sending data back to the master controller or acknowledging a write operation. Normally tied to SDAI to form the SDA line. An external pull-up resistor or (See Datasheet)", 26 SDAI (in) "SDAI: (SSOP Package) Serial Bus Data Input. A high impedance input for shifting in address, command or data bits. Normally tied to SDAO to form the SDA line. Internally tied to SDAO in QFN package.", 27 SCL (in) "SCL: Serial Bus Clock Input. Data at the SDA pin is shifted in or out on rising edges of SCL. This is a high impedance pin that is generally driven by an open-collector output from a master controller. An external pull-up (See Datasheet)", 28 ~{ALERT} (oc) "A\L\E\R\T\: Fault Alert Output. Open-drain logic output that is pulled to ground when a fault occurs to alert the host controller. A fault alert is enabled by setting the corresponding bit in the A\L\E\R\T\ register as shown (See Datasheet)", 29 ON2 (in) "ON1, ON2: (SSOP Package) On Control Inputs. A rising edge turns on the external N-channel FET and a falling edge turns it off. This pin also configures the state of the FET ON register bit (and hence the external FET) at (See Datasheet)", 30 ON1 (in) "ON1, ON2: (SSOP Package) On Control Inputs. A rising edge turns on the external N-channel FET and a falling edge turns it off. This pin also configures the state of the FET ON register bit (and hence the external FET) at (See Datasheet)", 31 ADIN1 (in) "ADIN: ADC Input. A voltage between 0 and 1.28V applied to this pin is measured by the on-board ADC. Tie to ground if unused.", 32 ~{EN1} (in) "E\N\1\, E\N\2\: Enable Input. Ground this pin to indicate a board is present and enable the N-channel MOSFET to turn-on. When this pin is high, the MOSFET is not allowed to turn on. An internal 10uA current source pulls up (See Datasheet)", 33 GPIO1 (io) "GPIO1, GPIO2: General Purpose Input/Output. Open-drain logic output or logic input. Defaults to an output set to pull low to indicate power is not good. Configure according to Table 3.", 34 FB1 (in) "FB1, FB2: Foldback Current Limit and Power-Good Input. A resistive divider from the output is tied to this pin. When the voltage at this pin drops below 1.235V, power is not considered good. The power bad condition may (See Datasheet)", 35 SOURCE1 (in) "SOURCE1, SOURCE2: N-Channel MOSFET Source and ADC Input. Connect this pin to the source of the external N-channel MOSFET switch for gate drive return. This pin also serves as the ADC input to monitor output voltage. The pin (See Datasheet)", 36 GATE1 (out) "GATE1, GATE2: Gate Drive for External N-Channel MOSFET. An internal 12uA current source charges the gate of the MOSFET. No compensation capacitor is required on the GATE pin, but a resistor and capacitor network from this (See Datasheet)"